# EAGLE library part MCP2515_MODULE_SEM_LAYOUT (library MCP2515_Module)
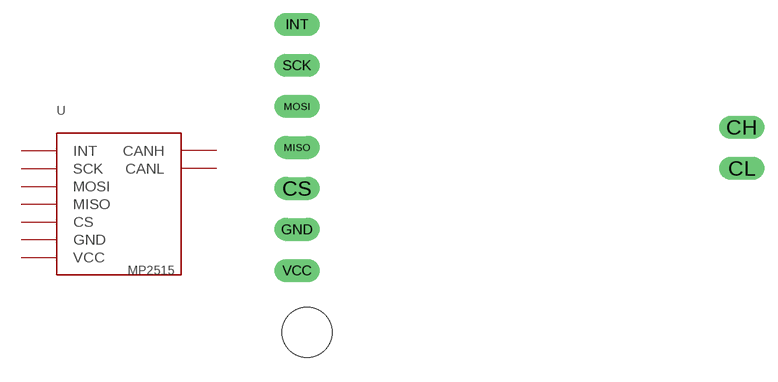
[diagram p2: symbol with the pads of MCP2515_MODULE_SEM_LAYOUT; footprint MCP2515_MODULE_SEM_LAYOUT]

Designator prefix -

## MCP2515_MODULE_SEM_LAYOUT  [MCP2515_MODULE_SEM_LAYOUT]
CH  CANH
CL  CANL
CS  CS
GND  GND
INT  INT
MISO  MISO
MOSI  MOSI
SCK  SCK
VCC  VCC

## Footprint MCP2515_MODULE_SEM_LAYOUT (pad centres in mm)
drill 0.9 pad 1.3 long: CH 27.511,-6.38; CL 27.511,-8.92; CS -0.009,-10.165; GND -0.009,-12.705; INT -0.009,-0.005; MISO -0.009,-7.625; MOSI -0.009,-5.085; SCK -0.009,-2.545; VCC -0.009,-15.245
hole 3.1 at 0.621,-19.07